# EAGLE library part A-DS09A_KG-T2S (library Connector_D-Sub)
D-SUB, 9POS, PLUG, R/A SLDR Datasheet <http://www.assmann-wsw.com/fileadmin/datasheets/ASS_4888_CO.pdf>
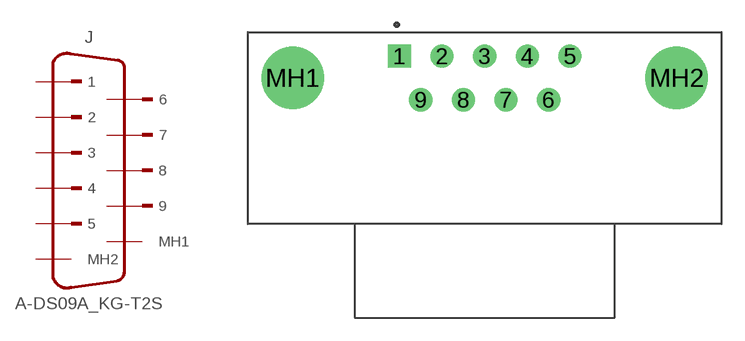
[diagram p12: symbol with the pads of A-DS09A_KG-T2S; footprint A-DS09A_KG-T2S]

Designator prefix J

## A-DS09A_KG-T2S (CATEGORY: Connector; DESCRIPTION: 9 Position D-Sub Plug, Male Pins Connector; GENDER: Male; MANUFACTURER: ASSMANN WSW components; MPN: A-DS 09 A/KG-T2S; OPERATING_TEMP: -55°C to +105°C; PART_STATUS: ACTIVE; ROHS_COMPLIANT: RoHS Compliant; SERIES: -; SUB-CATEGORY: D-SUB; TYPE: R/A; VALUE: D-SUB-PLUG-9P)  [A-DS09A_KG-T2S]
1  1  pas
2  2  pas
3  3  pas
4  4  pas
5  5  pas
6  6  pas
7  7  pas
8  8  pas
9  9  pas
MH1  MH1  sup
MH2  MH2  sup

## Footprint A-DS09A_KG-T2S (pad centres in mm)
drill 1 square: 1 -5.54,1.42
drill 1: 2 -2.77,1.42; 3 0,1.42; 4 2.77,1.42; 5 5.54,1.42; 6 4.155,-1.42; 7 1.385,-1.42; 8 -1.385,-1.42; 9 -4.155,-1.42
drill 3.05: MH1 -12.495,0; MH2 12.495,0